# Altium integrated library AnalogDevices_Matiushok.IntLib: 8 symbols
Pins are listed as number, name and electrical type; pins without a type are passive.

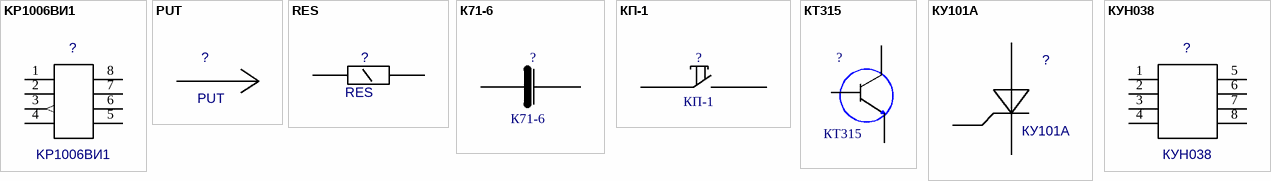
[diagram p0: symbols KP1006ВИ1 to КУН038]

## KP1006ВИ1
designator ?
Value: *
footprint KP1006ВИ1
pins: 1, 2, 3 (out), 4, 5, 6, 7, 8

## PUT
designator ?
Value: *
footprint PUT_PUT(Primary)
pins: 0

## RES
designator ?
Value: *
footprint RES_RES(Primary)
pins: 0, 1

## К71-6
designator ?
Value: *
footprint К71-6_К71-6(Primary)
pins: 0, 1

## КП-1
designator ?
Value: *
footprint КП-1_КП-1(Primary)
pins: 0, 1

## КТ315
designator ?
Value: *
footprint КТ315_КТ315(Primary)
pins: B, E, K

## КУ101А
designator ?
Value: *
footprint КУ101А_КУ101А(Primary)
pins: 0 A, 1 K, 2 Y

## КУН038
designator ?
Value: *
footprint КУН038
pins: 1, 2, 3, 4, 5, 6, 7, 8